# Altium schematic symbol library UM_Connector_v2.SchLib: 1 symbol
Pins are listed as number, name and electrical type; pins without a type are passive.

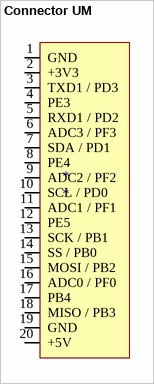
[diagram p0: symbol Connector UM]

## Connector UM
designator *
footprint Connector 20 pin (Horizontal 20 pin connector for UM)
pins: 1 GND, 2 +3V3, 3 TXD1 / PD3, 4 PE3, 5 RXD1 / PD2, 6 ADC3 / PF3, 7 SDA / PD1, 8 PE4, 9 ADC2 / PF2, 10 SCL / PD0, 11 ADC1 / PF1, 12 PE5, 13 SCK / PB1, 14 SS / PB0, 15 MOSI / PB2, 16 ADC0 / PF0, 17 PB4, 18 MISO / PB3, 19 GND, 20 +5V